# EAGLE library part MOTEINO_M0 (library Moteino)
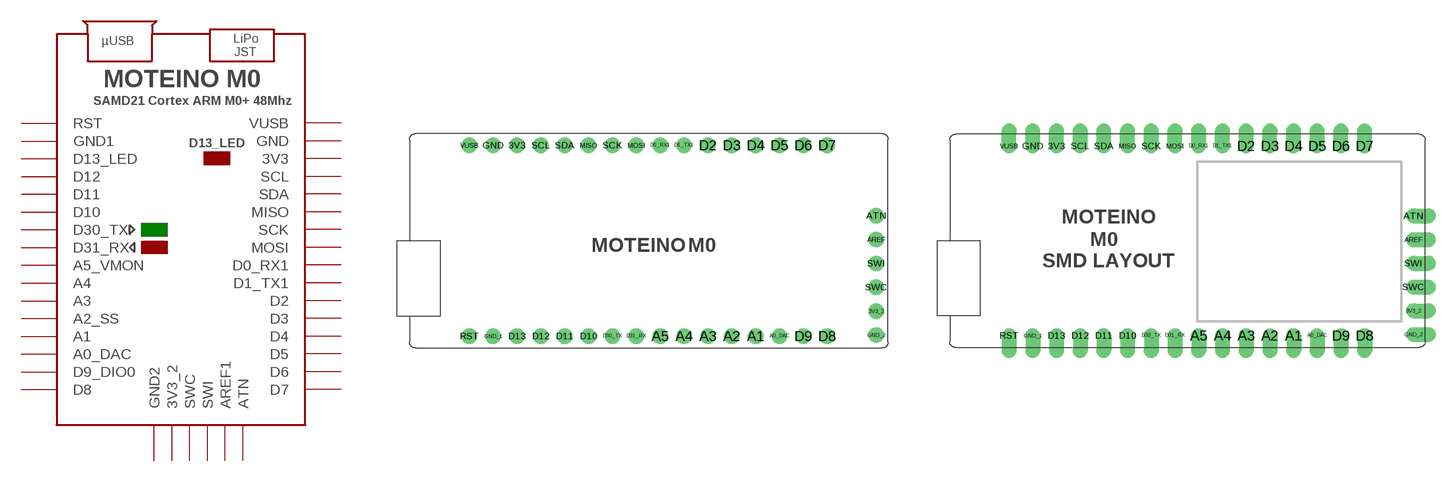
[diagram p4: symbol with the pads of MOTEINO_M0; footprints MOTEINO_M0, MOTEINO_M0_LONGPADS]

Designator prefix -

## MOTEINO_M0TH  [MOTEINO_M0]
3V3  3V3
3V3_2  3V3_2
A0_DAC  A0_DAC
A1  A1
A2  A2_SS
A3  A3
A4  A4
A5  A5_VMON
AREF  AREF1
ATN  ATN
D0_RX1  D0_RX1
D1_TX1  D1_TX1
D2  D2
D3  D3
D4  D4
D5  D5
D6  D6
D7  D7
D8  D8
D9  D9_DIO0
D10  D10
D11  D11
D12  D12
D13  D13_LED
D30_TX  D30_TX
D31_RX  D31_RX
GND  GND
GND_1  GND1
GND_2  GND2
MISO  MISO
MOSI  MOSI
RST  RST
SCK  SCK
SCL  SCL
SDA  SDA
SWC  SWC
SWI  SWI
VUSB  VUSB

## MOTEINO_M0SMD  [MOTEINO_M0_LONGPADS]
Pads as for MOTEINO_M0

## Footprint MOTEINO_M0 (pad centres in mm)
drill 1.016 pad 1.626: 3V3 11.43,22.352; 3V3_2 49.657,4.699; A0_DAC 39.37,2.032; A1 36.83,2.032; A2 34.29,2.032; A3 31.75,2.032; A4 29.21,2.032; A5 26.67,2.032; AREF 49.657,12.319; ATN 49.657,14.859; D0_RX1 26.67,22.352; D1_TX1 29.21,22.352; D2 31.75,22.352; D3 34.29,22.352; D4 36.83,22.352; D5 39.37,22.352; D6 41.91,22.352; D7 44.45,22.352; D8 44.45,2.032; D9 41.91,2.032; D10 19.05,2.032; D11 16.51,2.032; D12 13.97,2.032; D13 11.43,2.032; D30_TX 21.59,2.032; D31_RX 24.13,2.032; GND 8.89,22.352; GND_1 8.89,2.032; GND_2 49.657,2.159; MISO 19.05,22.352; MOSI 24.13,22.352; RST 6.35,2.032; SCK 21.59,22.352; SCL 13.97,22.352; SDA 16.51,22.352; SWC 49.657,7.239; SWI 49.657,9.779; VUSB 6.35,22.352

## Footprint MOTEINO_M0_LONGPADS (pad centres in mm)
drill 1.016 pad 1.626 offset: 3V3 11.43,22.352; 3V3_2 49.657,4.699; A0_DAC 39.37,2.032; A1 36.83,2.032; A2 34.29,2.032; A3 31.75,2.032; A4 29.21,2.032; A5 26.67,2.032; AREF 49.657,12.319; ATN 49.657,14.859; D0_RX1 26.67,22.352; D1_TX1 29.21,22.352; D2 31.75,22.352; D3 34.29,22.352; D4 36.83,22.352; D5 39.37,22.352; D6 41.91,22.352; D7 44.45,22.352; D8 44.45,2.032; D9 41.91,2.032; D10 19.05,2.032; D11 16.51,2.032; D12 13.97,2.032; D13 11.43,2.032; D30_TX 21.59,2.032; D31_RX 24.13,2.032; GND 8.89,22.352; GND_1 8.89,2.032; GND_2 49.657,2.159; MISO 19.05,22.352; MOSI 24.13,22.352; RST 6.35,2.032; SCK 21.59,22.352; SCL 13.97,22.352; SDA 16.51,22.352; SWC 49.657,7.239; SWI 49.657,9.779; VUSB 6.35,22.352